# Altium schematic symbol library MCU_Microchip_ATtiny.SchLib: 223 symbols (part 3 of 3)
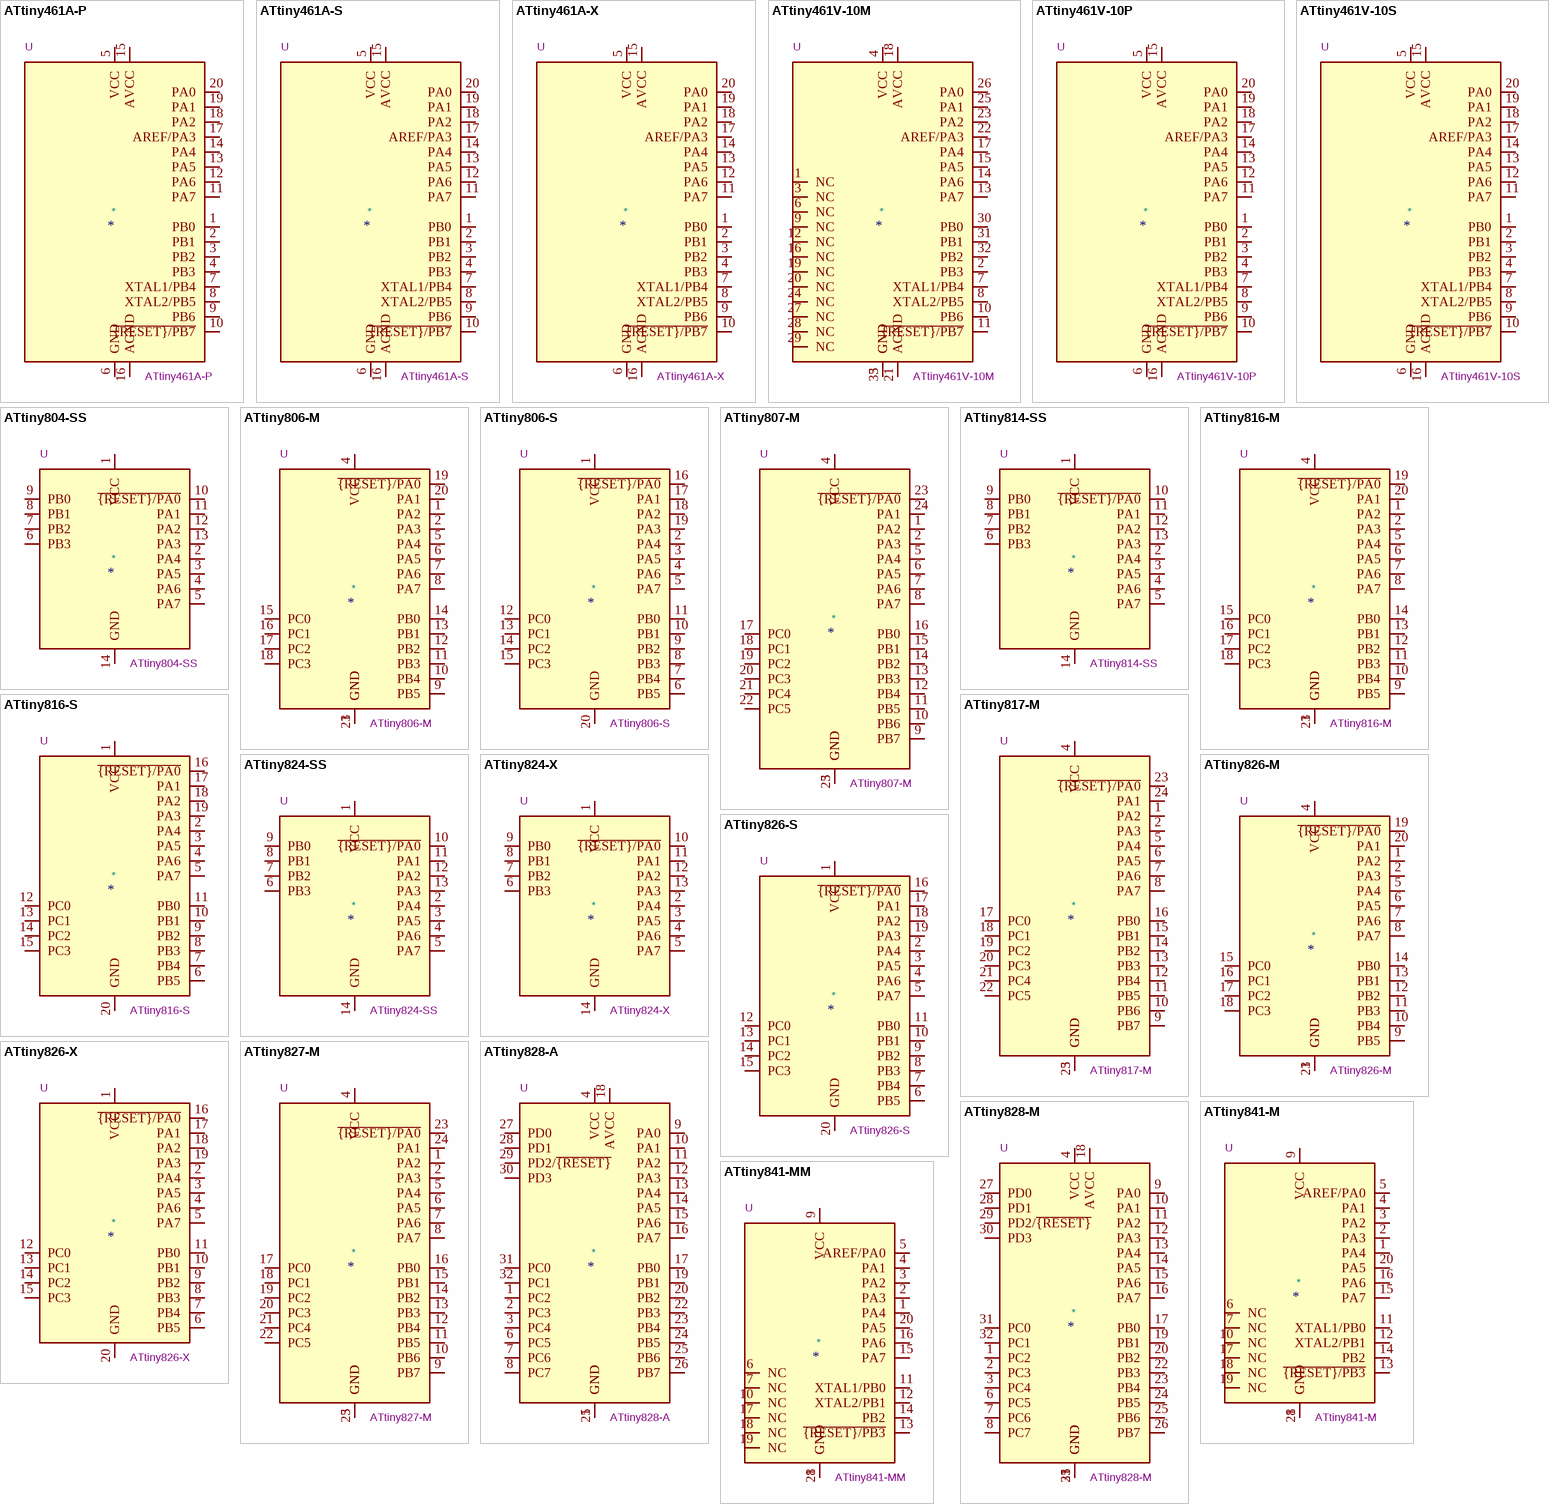
[diagram p11: symbols ATtiny461A-P to ATtiny841-MM]

## ATtiny828-M
designator *  value ATtiny828-M  Reference: U
20MHz, 8kB Flash, 512B SRAM, 256B EEPROM, debugWIRE, QFN-32; ki_keywords: AVR 8bit Microcontroller tinyAVR; ki_fp_filters: QFN*1EP*5x5mm*P0.5mm*; Footprint: Package_DFN_QFN:QFN-32-1EP_5x5mm_P0.5mm_EP3.1x3.1mm; Datasheet: http://ww1.microchip.com/downloads/en/DeviceDoc/doc8371.pdf; Description_: 20MHz, 8kB Flash, 512B SRAM, 256B EEPROM, debugWIRE, QFN-32
pins: 1 PC2, 2 PC3, 3 PC4, 4 VCC, 5 GND, 6 PC5, 7 PC6, 8 PC7, 9 PA0, 10 PA1, 11 PA2, 12 PA3, 13 PA4, 14 PA5, 15 PA6, 16 PA7, 17 PB0, 18 AVCC, 19 PB1, 20 PB2, 21 GND, 22 PB3, 23 PB4, 24 PB5, 25 PB6, 26 PB7, 27 PD0, 28 PD1, 29 PD2/~{{RESET}}, 30 PD3, 31 PC0, 32 PC1, 33 GND

## ATtiny841-M
designator *  value ATtiny841-M  Reference: U
16MHz, 8kB Flash, 512B SRAM, 512B EEPROM, ADC, ACI, debugWIRE, QFN-20; ki_keywords: AVR 8bit Microcontroller tinyAVR; ki_fp_filters: QFN*1EP*4x4mm*P0.5mm*; Footprint: Package_DFN_QFN:QFN-20-1EP_4x4mm_P0.5mm_EP2.6x2.6mm; Datasheet: http://ww1.microchip.com/downloads/en/DeviceDoc/Atmel-8495-8-bit-AVR-Microcontrollers-ATtiny441-ATtiny841_Datasheet.pdf; Description_: 16MHz, 8kB Flash, 512B SRAM, 512B EEPROM, ADC, ACI, debugWIRE, QFN-20
pins: 1 PA4, 2 PA3, 3 PA2, 4 PA1, 5 AREF/PA0, 6 NC, 7 NC, 8 GND, 9 VCC, 10 NC, 11 XTAL1/PB0, 12 XTAL2/PB1, 13 ~{{RESET}/PB3}, 14 PB2, 15 PA7, 16 PA6, 17 NC, 18 NC, 19 NC, 20 PA5, 21 GND

## ATtiny841-MM
designator *  value ATtiny841-MM  Reference: U
16MHz, 8kB Flash, 512B SRAM, 512B EEPROM, ADC, ACI, debugWIRE, QFN-20; ki_keywords: AVR 8bit Microcontroller tinyAVR; ki_fp_filters: QFN*1EP*3x3mm*P0.45mm*; Footprint: Package_DFN_QFN:QFN-20-1EP_3x3mm_P0.45mm_EP1.6x1.6mm; Datasheet: http://ww1.microchip.com/downloads/en/DeviceDoc/Atmel-8495-8-bit-AVR-Microcontrollers-ATtiny441-ATtiny841_Datasheet.pdf; Description_: 16MHz, 8kB Flash, 512B SRAM, 512B EEPROM, ADC, ACI, debugWIRE, QFN-20
pins: 1 PA4, 2 PA3, 3 PA2, 4 PA1, 5 AREF/PA0, 6 NC, 7 NC, 8 GND, 9 VCC, 10 NC, 11 XTAL1/PB0, 12 XTAL2/PB1, 13 ~{{RESET}/PB3}, 14 PB2, 15 PA7, 16 PA6, 17 NC, 18 NC, 19 NC, 20 PA5, 21 GND

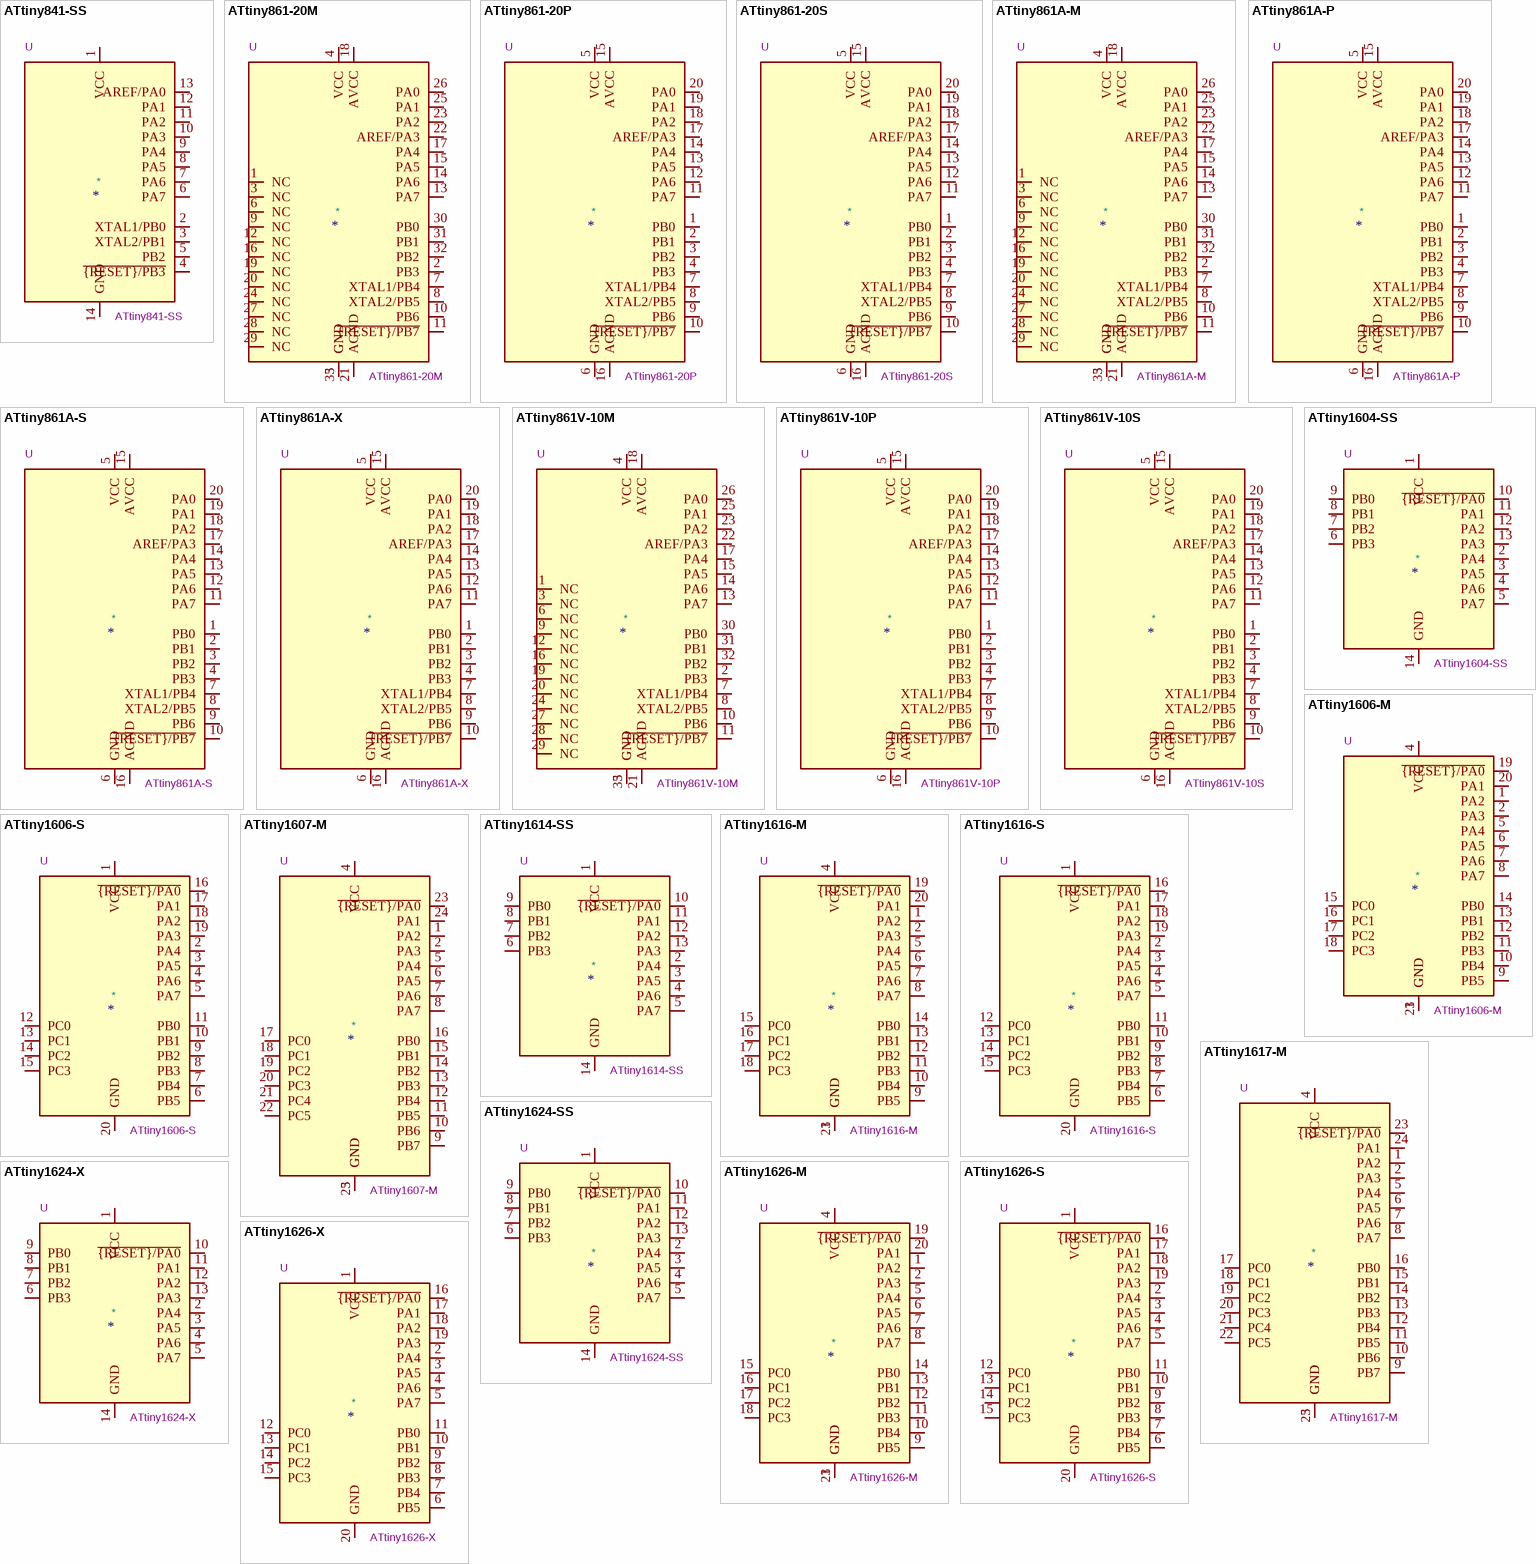
[diagram p7: symbols ATtiny841-SS to ATtiny1626-X]

## ATtiny841-SS
designator *  value ATtiny841-SS  Reference: U
16MHz, 8kB Flash, 512B SRAM, 512B EEPROM, ADC, ACI, debugWIRE, SOIC-14; ki_keywords: AVR 8bit Microcontroller tinyAVR; ki_fp_filters: SOIC*3.9x8.7mm*P1.27mm*; Footprint: Package_SO:SOIC-14_3.9x8.7mm_P1.27mm; Datasheet: http://ww1.microchip.com/downloads/en/DeviceDoc/Atmel-8495-8-bit-AVR-Microcontrollers-ATtiny441-ATtiny841_Datasheet.pdf; Description_: 16MHz, 8kB Flash, 512B SRAM, 512B EEPROM, ADC, ACI, debugWIRE, SOIC-14
pins: 1 VCC, 2 XTAL1/PB0, 3 XTAL2/PB1, 4 ~{{RESET}/PB3}, 5 PB2, 6 PA7, 7 PA6, 8 PA5, 9 PA4, 10 PA3, 11 PA2, 12 PA1, 13 AREF/PA0, 14 GND

## ATtiny861-20M
designator *  value ATtiny861-20M  Reference: U
20MHz, 8kB Flash, 512B SRAM, 512B EEPROM, QFN-32; ki_keywords: AVR 8bit Microcontroller tinyAVR; ki_fp_filters: QFN*1EP*5x5mm*P0.5mm*; Footprint: Package_DFN_QFN:QFN-32-1EP_5x5mm_P0.5mm_EP3.1x3.1mm; Datasheet: http://ww1.microchip.com/downloads/en/DeviceDoc/atmel-2588-8-bit-avr-microcontrollers-tinyavr-attiny261-attiny461-attiny861_datasheet.pdf; Description_: 20MHz, 8kB Flash, 512B SRAM, 512B EEPROM, QFN-32
pins: 1 NC, 2 PB3, 3 NC, 4 VCC, 5 GND, 6 NC, 7 XTAL1/PB4, 8 XTAL2/PB5, 9 NC, 10 PB6, 11 ~{{RESET}/PB7}, 12 NC, 13 PA7, 14 PA6, 15 PA5, 16 NC, 17 PA4, 18 AVCC, 19 NC, 20 NC, 21 AGND, 22 AREF/PA3, 23 PA2, 24 NC, 25 PA1, 26 PA0, 27 NC, 28 NC, 29 NC, 30 PB0, 31 PB1, 32 PB2, 33 GND

## ATtiny861-20P
designator *  value ATtiny861-20P  Reference: U
20MHz, 8kB Flash, 512B SRAM, 512B EEPROM, DIP-20; ki_keywords: AVR 8bit Microcontroller tinyAVR; ki_fp_filters: DIP*W7.62mm*; Footprint: Package_DIP:DIP-20_W7.62mm; Datasheet: http://ww1.microchip.com/downloads/en/DeviceDoc/atmel-2588-8-bit-avr-microcontrollers-tinyavr-attiny261-attiny461-attiny861_datasheet.pdf; Description_: 20MHz, 8kB Flash, 512B SRAM, 512B EEPROM, DIP-20
pins: 1 PB0, 2 PB1, 3 PB2, 4 PB3, 5 VCC, 6 GND, 7 XTAL1/PB4, 8 XTAL2/PB5, 9 PB6, 10 ~{{RESET}/PB7}, 11 PA7, 12 PA6, 13 PA5, 14 PA4, 15 AVCC, 16 AGND, 17 AREF/PA3, 18 PA2, 19 PA1, 20 PA0

## ATtiny861-20S
designator *  value ATtiny861-20S  Reference: U
20MHz, 8kB Flash, 512B SRAM, 512B EEPROM, SOIC-20; ki_keywords: AVR 8bit Microcontroller tinyAVR; ki_fp_filters: SOIC*7.5x12.8mm*P1.27mm*; Footprint: Package_SO:SOIC-20W_7.5x12.8mm_P1.27mm; Datasheet: http://ww1.microchip.com/downloads/en/DeviceDoc/atmel-2588-8-bit-avr-microcontrollers-tinyavr-attiny261-attiny461-attiny861_datasheet.pdf; Description_: 20MHz, 8kB Flash, 512B SRAM, 512B EEPROM, SOIC-20
pins: 1 PB0, 2 PB1, 3 PB2, 4 PB3, 5 VCC, 6 GND, 7 XTAL1/PB4, 8 XTAL2/PB5, 9 PB6, 10 ~{{RESET}/PB7}, 11 PA7, 12 PA6, 13 PA5, 14 PA4, 15 AVCC, 16 AGND, 17 AREF/PA3, 18 PA2, 19 PA1, 20 PA0

## ATtiny861A-M
designator *  value ATtiny861A-M  Reference: U
20MHz, 8kB Flash, 512B SRAM, 512B EEPROM, QFN-32; ki_keywords: AVR 8bit Microcontroller tinyAVR; ki_fp_filters: QFN*1EP*5x5mm*P0.5mm*; Footprint: Package_DFN_QFN:QFN-32-1EP_5x5mm_P0.5mm_EP3.1x3.1mm; Datasheet: http://ww1.microchip.com/downloads/en/DeviceDoc/doc8197.pdf; Description_: 20MHz, 8kB Flash, 512B SRAM, 512B EEPROM, QFN-32
pins: 1 NC, 2 PB3, 3 NC, 4 VCC, 5 GND, 6 NC, 7 XTAL1/PB4, 8 XTAL2/PB5, 9 NC, 10 PB6, 11 ~{{RESET}/PB7}, 12 NC, 13 PA7, 14 PA6, 15 PA5, 16 NC, 17 PA4, 18 AVCC, 19 NC, 20 NC, 21 AGND, 22 AREF/PA3, 23 PA2, 24 NC, 25 PA1, 26 PA0, 27 NC, 28 NC, 29 NC, 30 PB0, 31 PB1, 32 PB2, 33 GND

## ATtiny861A-P
designator *  value ATtiny861A-P  Reference: U
20MHz, 8kB Flash, 512B SRAM, 512B EEPROM, DIP-20; ki_keywords: AVR 8bit Microcontroller tinyAVR; ki_fp_filters: DIP*W7.62mm*; Footprint: Package_DIP:DIP-20_W7.62mm; Datasheet: http://ww1.microchip.com/downloads/en/DeviceDoc/doc8197.pdf; Description_: 20MHz, 8kB Flash, 512B SRAM, 512B EEPROM, DIP-20
pins: 1 PB0, 2 PB1, 3 PB2, 4 PB3, 5 VCC, 6 GND, 7 XTAL1/PB4, 8 XTAL2/PB5, 9 PB6, 10 ~{{RESET}/PB7}, 11 PA7, 12 PA6, 13 PA5, 14 PA4, 15 AVCC, 16 AGND, 17 AREF/PA3, 18 PA2, 19 PA1, 20 PA0

## ATtiny861A-S
designator *  value ATtiny861A-S  Reference: U
20MHz, 8kB Flash, 512B SRAM, 512B EEPROM, SOIC-20; ki_keywords: AVR 8bit Microcontroller tinyAVR; ki_fp_filters: SOIC*7.5x12.8mm*P1.27mm*; Footprint: Package_SO:SOIC-20W_7.5x12.8mm_P1.27mm; Datasheet: http://ww1.microchip.com/downloads/en/DeviceDoc/doc8197.pdf; Description_: 20MHz, 8kB Flash, 512B SRAM, 512B EEPROM, SOIC-20
pins: 1 PB0, 2 PB1, 3 PB2, 4 PB3, 5 VCC, 6 GND, 7 XTAL1/PB4, 8 XTAL2/PB5, 9 PB6, 10 ~{{RESET}/PB7}, 11 PA7, 12 PA6, 13 PA5, 14 PA4, 15 AVCC, 16 AGND, 17 AREF/PA3, 18 PA2, 19 PA1, 20 PA0

## ATtiny861A-X
designator *  value ATtiny861A-X  Reference: U
20MHz, 8kB Flash, 512B SRAM, 512B EEPROM, TSSOP-20; ki_keywords: AVR 8bit Microcontroller tinyAVR; ki_fp_filters: TSSOP*4.4x6.5mm*P0.65mm*; Footprint: Package_SO:TSSOP-20_4.4x6.5mm_P0.65mm; Datasheet: http://ww1.microchip.com/downloads/en/DeviceDoc/doc8197.pdf; Description_: 20MHz, 8kB Flash, 512B SRAM, 512B EEPROM, TSSOP-20
pins: 1 PB0, 2 PB1, 3 PB2, 4 PB3, 5 VCC, 6 GND, 7 XTAL1/PB4, 8 XTAL2/PB5, 9 PB6, 10 ~{{RESET}/PB7}, 11 PA7, 12 PA6, 13 PA5, 14 PA4, 15 AVCC, 16 AGND, 17 AREF/PA3, 18 PA2, 19 PA1, 20 PA0

## ATtiny861V-10M
designator *  value ATtiny861V-10M  Reference: U
10MHz, 8kB Flash, 512B SRAM, 512B EEPROM, QFN-32; ki_keywords: AVR 8bit Microcontroller tinyAVR; ki_fp_filters: QFN*1EP*5x5mm*P0.5mm*; Footprint: Package_DFN_QFN:QFN-32-1EP_5x5mm_P0.5mm_EP3.1x3.1mm; Datasheet: http://ww1.microchip.com/downloads/en/DeviceDoc/atmel-2588-8-bit-avr-microcontrollers-tinyavr-attiny261-attiny461-attiny861_datasheet.pdf; Description_: 10MHz, 8kB Flash, 512B SRAM, 512B EEPROM, QFN-32
pins: 1 NC, 2 PB3, 3 NC, 4 VCC, 5 GND, 6 NC, 7 XTAL1/PB4, 8 XTAL2/PB5, 9 NC, 10 PB6, 11 ~{{RESET}/PB7}, 12 NC, 13 PA7, 14 PA6, 15 PA5, 16 NC, 17 PA4, 18 AVCC, 19 NC, 20 NC, 21 AGND, 22 AREF/PA3, 23 PA2, 24 NC, 25 PA1, 26 PA0, 27 NC, 28 NC, 29 NC, 30 PB0, 31 PB1, 32 PB2, 33 GND

## ATtiny861V-10P
designator *  value ATtiny861V-10P  Reference: U
10MHz, 8kB Flash, 512B SRAM, 512B EEPROM, DIP-20; ki_keywords: AVR 8bit Microcontroller tinyAVR; ki_fp_filters: DIP*W7.62mm*; Footprint: Package_DIP:DIP-20_W7.62mm; Datasheet: http://ww1.microchip.com/downloads/en/DeviceDoc/atmel-2588-8-bit-avr-microcontrollers-tinyavr-attiny261-attiny461-attiny861_datasheet.pdf; Description_: 10MHz, 8kB Flash, 512B SRAM, 512B EEPROM, DIP-20
pins: 1 PB0, 2 PB1, 3 PB2, 4 PB3, 5 VCC, 6 GND, 7 XTAL1/PB4, 8 XTAL2/PB5, 9 PB6, 10 ~{{RESET}/PB7}, 11 PA7, 12 PA6, 13 PA5, 14 PA4, 15 AVCC, 16 AGND, 17 AREF/PA3, 18 PA2, 19 PA1, 20 PA0

## ATtiny861V-10S
designator *  value ATtiny861V-10S  Reference: U
10MHz, 8kB Flash, 512B SRAM, 512B EEPROM, SOIC-20; ki_keywords: AVR 8bit Microcontroller tinyAVR; ki_fp_filters: SOIC*7.5x12.8mm*P1.27mm*; Footprint: Package_SO:SOIC-20W_7.5x12.8mm_P1.27mm; Datasheet: http://ww1.microchip.com/downloads/en/DeviceDoc/atmel-2588-8-bit-avr-microcontrollers-tinyavr-attiny261-attiny461-attiny861_datasheet.pdf; Description_: 10MHz, 8kB Flash, 512B SRAM, 512B EEPROM, SOIC-20
pins: 1 PB0, 2 PB1, 3 PB2, 4 PB3, 5 VCC, 6 GND, 7 XTAL1/PB4, 8 XTAL2/PB5, 9 PB6, 10 ~{{RESET}/PB7}, 11 PA7, 12 PA6, 13 PA5, 14 PA4, 15 AVCC, 16 AGND, 17 AREF/PA3, 18 PA2, 19 PA1, 20 PA0

## ATtiny1604-SS
designator *  value ATtiny1604-SS  Reference: U
20MHz, 16kB Flash, 1kB SRAM, 256B EEPROM, SOIC-14; ki_keywords: AVR 8bit Microcontroller tinyAVR; ki_fp_filters: SOIC*3.9x8.7mm*P1.27mm*; Footprint: Package_SO:SOIC-14_3.9x8.7mm_P1.27mm; Datasheet: http://ww1.microchip.com/downloads/en/DeviceDoc/ATtiny804_1604-Data-Sheet-40002028A.pdf; Description_: 20MHz, 16kB Flash, 1kB SRAM, 256B EEPROM, SOIC-14
pins: 1 VCC, 2 PA4, 3 PA5, 4 PA6, 5 PA7, 6 PB3, 7 PB2, 8 PB1, 9 PB0, 10 ~{{RESET}/PA0}, 11 PA1, 12 PA2, 13 PA3, 14 GND

## ATtiny1606-M
designator *  value ATtiny1606-M  Reference: U
20MHz, 16kB Flash, 1kB SRAM, 256B EEPROM, VQFN-20; ki_keywords: AVR 8bit Microcontroller tinyAVR; ki_fp_filters: VQFN*1EP*3x3mm*P0.4mm*; Footprint: Package_DFN_QFN:VQFN-20-1EP_3x3mm_P0.4mm_EP1.7x1.7mm; Datasheet: http://ww1.microchip.com/downloads/en/DeviceDoc/ATtiny806_1606_Data_Sheet_40002029A.pdf; Description_: 20MHz, 16kB Flash, 1kB SRAM, 256B EEPROM, VQFN-20
pins: 1 PA2, 2 PA3, 3 GND, 4 VCC, 5 PA4, 6 PA5, 7 PA6, 8 PA7, 9 PB5, 10 PB4, 11 PB3, 12 PB2, 13 PB1, 14 PB0, 15 PC0, 16 PC1, 17 PC2, 18 PC3, 19 ~{{RESET}/PA0}, 20 PA1, 21 GND

## ATtiny1606-S
designator *  value ATtiny1606-S  Reference: U
20MHz, 16kB Flash, 1kB SRAM, 256B EEPROM, SOIC-20; ki_keywords: AVR 8bit Microcontroller tinyAVR; ki_fp_filters: SOIC*7.5x12.8mm*P1.27mm*; Footprint: Package_SO:SOIC-20W_7.5x12.8mm_P1.27mm; Datasheet: http://ww1.microchip.com/downloads/en/DeviceDoc/ATtiny806_1606_Data_Sheet_40002029A.pdf; Description_: 20MHz, 16kB Flash, 1kB SRAM, 256B EEPROM, SOIC-20
pins: 1 VCC, 2 PA4, 3 PA5, 4 PA6, 5 PA7, 6 PB5, 7 PB4, 8 PB3, 9 PB2, 10 PB1, 11 PB0, 12 PC0, 13 PC1, 14 PC2, 15 PC3, 16 ~{{RESET}/PA0}, 17 PA1, 18 PA2, 19 PA3, 20 GND

## ATtiny1607-M
designator *  value ATtiny1607-M  Reference: U
20MHz, 16kB Flash, 1kB SRAM, 256B EEPROM, VQFN-24; ki_keywords: AVR 8bit Microcontroller tinyAVR; ki_fp_filters: QFN*1EP*4x4mm*P0.5mm*; Footprint: Package_DFN_QFN:QFN-24-1EP_4x4mm_P0.5mm_EP2.6x2.6mm; Datasheet: http://ww1.microchip.com/downloads/en/DeviceDoc/ATtiny807_1607-Data-Sheet-40002030A.pdf; Description_: 20MHz, 16kB Flash, 1kB SRAM, 256B EEPROM, VQFN-24
pins: 1 PA2, 2 PA3, 3 GND, 4 VCC, 5 PA4, 6 PA5, 7 PA6, 8 PA7, 9 PB7, 10 PB6, 11 PB5, 12 PB4, 13 PB3, 14 PB2, 15 PB1, 16 PB0, 17 PC0, 18 PC1, 19 PC2, 20 PC3, 21 PC4, 22 PC5, 23 ~{{RESET}/PA0}, 24 PA1, 25 GND

## ATtiny1614-SS
designator *  value ATtiny1614-SS  Reference: U
20MHz, 16kB Flash, 2kB SRAM, 256B EEPROM, SOIC-14; ki_keywords: AVR 8bit Microcontroller tinyAVR; ki_fp_filters: SOIC*3.9x8.7mm*P1.27mm*; Footprint: Package_SO:SOIC-14_3.9x8.7mm_P1.27mm; Datasheet: http://ww1.microchip.com/downloads/en/DeviceDoc/ATtiny1614-data-sheet-40001995A.pdf; Description_: 20MHz, 16kB Flash, 2kB SRAM, 256B EEPROM, SOIC-14
pins: 1 VCC, 2 PA4, 3 PA5, 4 PA6, 5 PA7, 6 PB3, 7 PB2, 8 PB1, 9 PB0, 10 ~{{RESET}/PA0}, 11 PA1, 12 PA2, 13 PA3, 14 GND

## ATtiny1616-M
designator *  value ATtiny1616-M  Reference: U
20MHz, 16kB Flash, 2kB SRAM, 256B EEPROM, VQFN-20; ki_keywords: AVR 8bit Microcontroller tinyAVR; ki_fp_filters: VQFN*1EP*3x3mm*P0.4mm*; Footprint: Package_DFN_QFN:VQFN-20-1EP_3x3mm_P0.4mm_EP1.7x1.7mm; Datasheet: http://ww1.microchip.com/downloads/en/DeviceDoc/ATtiny3216_ATtiny1616-data-sheet-40001997B.pdf; Description_: 20MHz, 16kB Flash, 2kB SRAM, 256B EEPROM, VQFN-20
pins: 1 PA2, 2 PA3, 3 GND, 4 VCC, 5 PA4, 6 PA5, 7 PA6, 8 PA7, 9 PB5, 10 PB4, 11 PB3, 12 PB2, 13 PB1, 14 PB0, 15 PC0, 16 PC1, 17 PC2, 18 PC3, 19 ~{{RESET}/PA0}, 20 PA1, 21 GND

## ATtiny1616-S
designator *  value ATtiny1616-S  Reference: U
20MHz, 16kB Flash, 2kB SRAM, 256B EEPROM, SOIC-20; ki_keywords: AVR 8bit Microcontroller tinyAVR; ki_fp_filters: SOIC*7.5x12.8mm*P1.27mm*; Footprint: Package_SO:SOIC-20W_7.5x12.8mm_P1.27mm; Datasheet: http://ww1.microchip.com/downloads/en/DeviceDoc/ATtiny3216_ATtiny1616-data-sheet-40001997B.pdf; Description_: 20MHz, 16kB Flash, 2kB SRAM, 256B EEPROM, SOIC-20
pins: 1 VCC, 2 PA4, 3 PA5, 4 PA6, 5 PA7, 6 PB5, 7 PB4, 8 PB3, 9 PB2, 10 PB1, 11 PB0, 12 PC0, 13 PC1, 14 PC2, 15 PC3, 16 ~{{RESET}/PA0}, 17 PA1, 18 PA2, 19 PA3, 20 GND

## ATtiny1617-M
designator *  value ATtiny1617-M  Reference: U
20MHz, 16kB Flash, 2kB SRAM, 256B EEPROM, VQFN-24; ki_keywords: AVR 8bit Microcontroller tinyAVR; ki_fp_filters: QFN*1EP*4x4mm*P0.5mm*; Footprint: Package_DFN_QFN:QFN-24-1EP_4x4mm_P0.5mm_EP2.6x2.6mm; Datasheet: http://ww1.microchip.com/downloads/en/DeviceDoc/ATtiny3217_1617-Data-Sheet-40001999B.pdf; Description_: 20MHz, 16kB Flash, 2kB SRAM, 256B EEPROM, VQFN-24
pins: 1 PA2, 2 PA3, 3 GND, 4 VCC, 5 PA4, 6 PA5, 7 PA6, 8 PA7, 9 PB7, 10 PB6, 11 PB5, 12 PB4, 13 PB3, 14 PB2, 15 PB1, 16 PB0, 17 PC0, 18 PC1, 19 PC2, 20 PC3, 21 PC4, 22 PC5, 23 ~{{RESET}/PA0}, 24 PA1, 25 GND

## ATtiny1624-SS
designator *  value ATtiny1624-SS  Reference: U
20MHz, 16kB Flash, 2kB SRAM, 256B EEPROM, SOIC-14; ki_keywords: AVR 8bit Microcontroller tinyAVR; ki_fp_filters: SOIC*3.9x8.7mm*P1.27mm*; Footprint: Package_SO:SOIC-14_3.9x8.7mm_P1.27mm; Datasheet: https://ww1.microchip.com/downloads/en/DeviceDoc/ATtiny1624-26-27-DataSheet-DS40002234A.pdf; Description_: 20MHz, 16kB Flash, 2kB SRAM, 256B EEPROM, SOIC-14
pins: 1 VCC, 2 PA4, 3 PA5, 4 PA6, 5 PA7, 6 PB3, 7 PB2, 8 PB1, 9 PB0, 10 ~{{RESET}/PA0}, 11 PA1, 12 PA2, 13 PA3, 14 GND

## ATtiny1624-X
designator *  value ATtiny1624-X  Reference: U
20MHz, 16kB Flash, 2kB SRAM, 256B EEPROM, TSSOP-14; ki_keywords: AVR 8bit Microcontroller tinyAVR; ki_fp_filters: TSSOP*4.4x5mm*P0.65mm*; Footprint: Package_SO:TSSOP-14_4.4x5mm_P0.65mm; Datasheet: https://ww1.microchip.com/downloads/en/DeviceDoc/ATtiny1624-26-27-DataSheet-DS40002234A.pdf; Description_: 20MHz, 16kB Flash, 2kB SRAM, 256B EEPROM, TSSOP-14
pins: 1 VCC, 2 PA4, 3 PA5, 4 PA6, 5 PA7, 6 PB3, 7 PB2, 8 PB1, 9 PB0, 10 ~{{RESET}/PA0}, 11 PA1, 12 PA2, 13 PA3, 14 GND

## ATtiny1626-M
designator *  value ATtiny1626-M  Reference: U
20MHz, 16kB Flash, 2kB SRAM, 256B EEPROM, VQFN-20; ki_keywords: AVR 8bit Microcontroller tinyAVR; ki_fp_filters: VQFN*1EP*3x3mm*P0.4mm*; Footprint: Package_DFN_QFN:VQFN-20-1EP_3x3mm_P0.4mm_EP1.7x1.7mm; Datasheet: https://ww1.microchip.com/downloads/en/DeviceDoc/ATtiny1624-26-27-DataSheet-DS40002234A.pdf; Description_: 20MHz, 16kB Flash, 2kB SRAM, 256B EEPROM, VQFN-20
pins: 1 PA2, 2 PA3, 3 GND, 4 VCC, 5 PA4, 6 PA5, 7 PA6, 8 PA7, 9 PB5, 10 PB4, 11 PB3, 12 PB2, 13 PB1, 14 PB0, 15 PC0, 16 PC1, 17 PC2, 18 PC3, 19 ~{{RESET}/PA0}, 20 PA1, 21 GND

## ATtiny1626-S
designator *  value ATtiny1626-S  Reference: U
20MHz, 16kB Flash, 2kB SRAM, 256B EEPROM, SOIC-20; ki_keywords: AVR 8bit Microcontroller tinyAVR; ki_fp_filters: SOIC*7.5x12.8mm*P1.27mm*; Footprint: Package_SO:SOIC-20W_7.5x12.8mm_P1.27mm; Datasheet: https://ww1.microchip.com/downloads/en/DeviceDoc/ATtiny1624-26-27-DataSheet-DS40002234A.pdf; Description_: 20MHz, 16kB Flash, 2kB SRAM, 256B EEPROM, SOIC-20
pins: 1 VCC, 2 PA4, 3 PA5, 4 PA6, 5 PA7, 6 PB5, 7 PB4, 8 PB3, 9 PB2, 10 PB1, 11 PB0, 12 PC0, 13 PC1, 14 PC2, 15 PC3, 16 ~{{RESET}/PA0}, 17 PA1, 18 PA2, 19 PA3, 20 GND

## ATtiny1626-X
designator *  value ATtiny1626-X  Reference: U
20MHz, 16kB Flash, 2kB SRAM, 256B EEPROM, SSOP-20; ki_keywords: AVR 8bit Microcontroller tinyAVR; ki_fp_filters: SSOP*5.3x7.2mm*P0.65mm*; Footprint: Package_SO:SSOP-20_5.3x7.2mm_P0.65mm; Datasheet: https://ww1.microchip.com/downloads/en/DeviceDoc/ATtiny1624-26-27-DataSheet-DS40002234A.pdf; Description_: 20MHz, 16kB Flash, 2kB SRAM, 256B EEPROM, SSOP-20
pins: 1 VCC, 2 PA4, 3 PA5, 4 PA6, 5 PA7, 6 PB5, 7 PB4, 8 PB3, 9 PB2, 10 PB1, 11 PB0, 12 PC0, 13 PC1, 14 PC2, 15 PC3, 16 ~{{RESET}/PA0}, 17 PA1, 18 PA2, 19 PA3, 20 GND

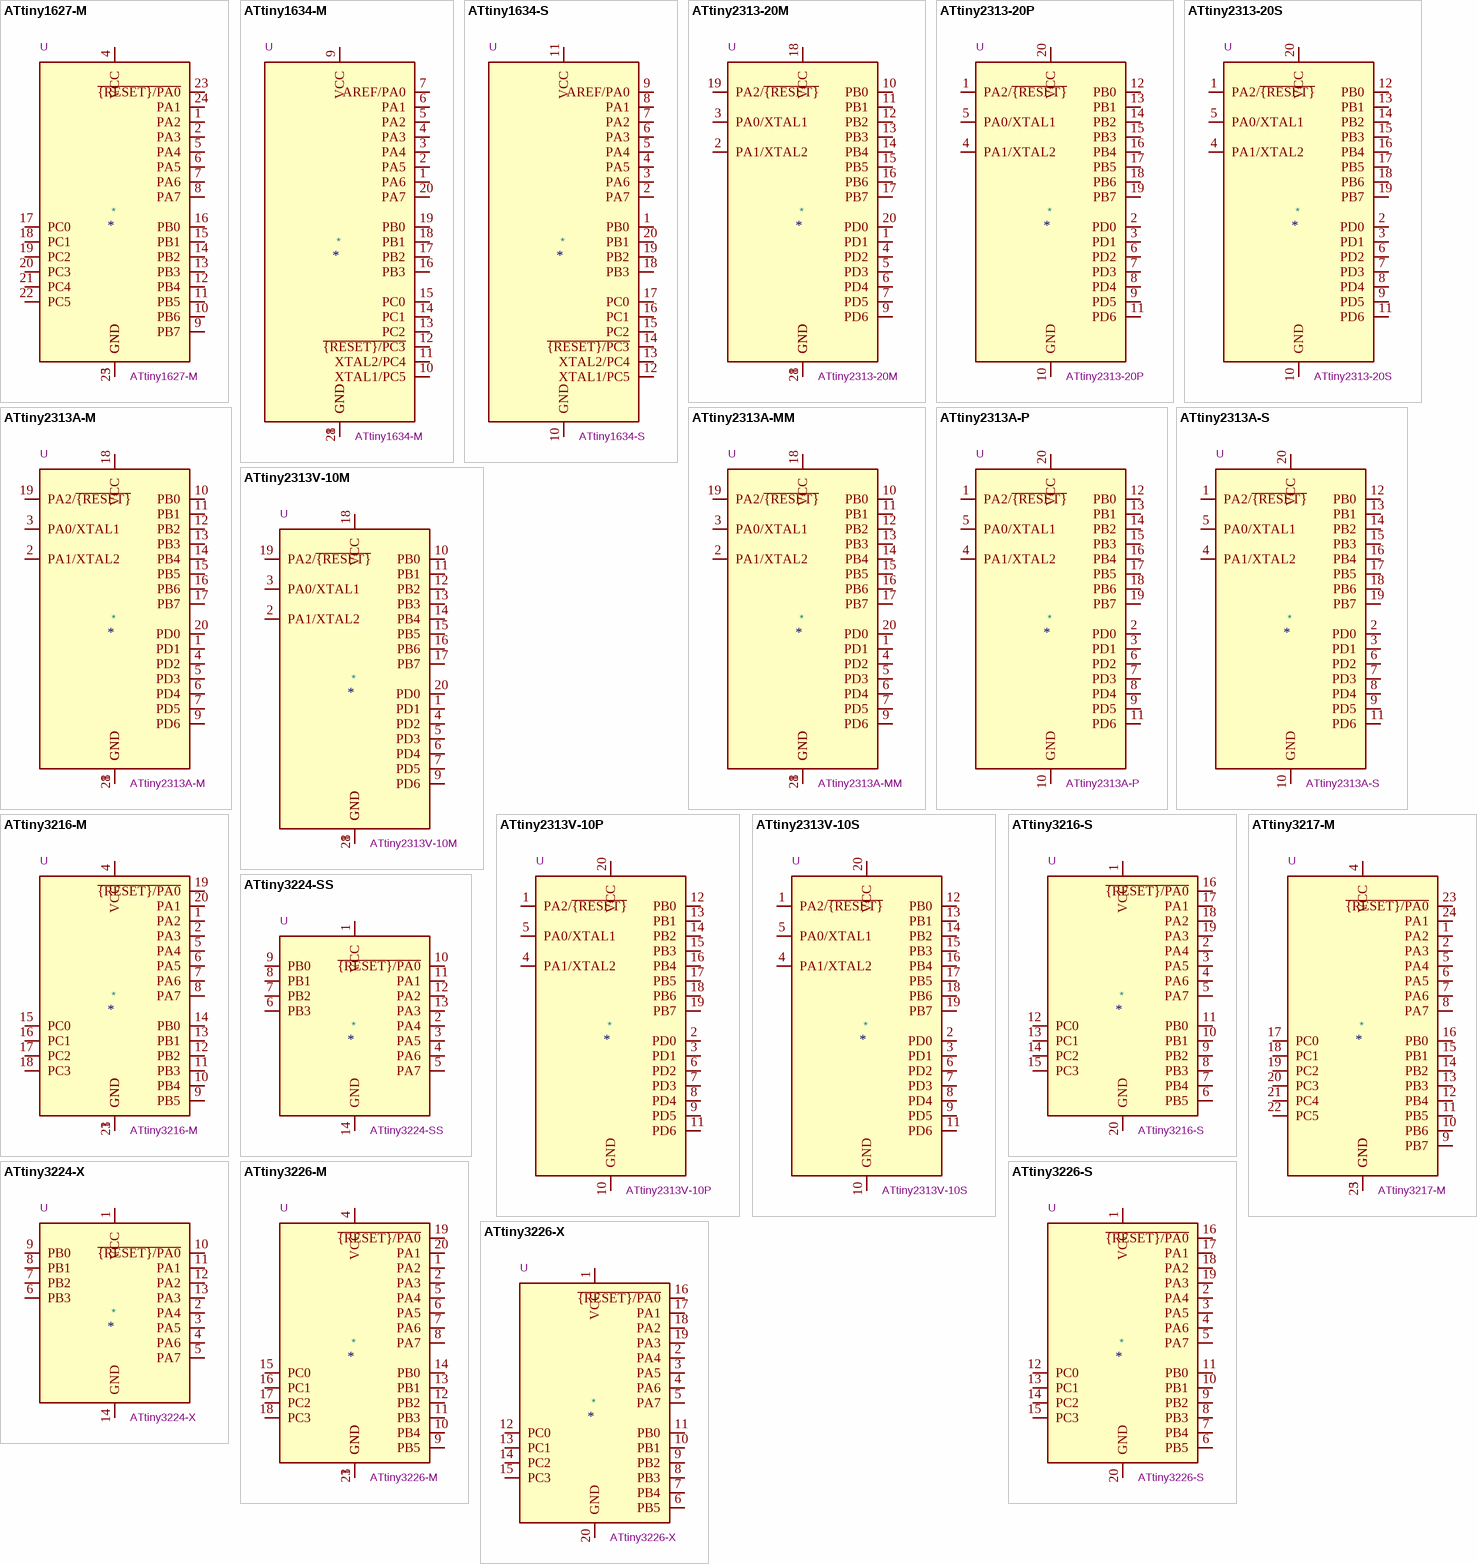
[diagram p8: symbols ATtiny1627-M to ATtiny3226-X]

## ATtiny1627-M
designator *  value ATtiny1627-M  Reference: U
20MHz, 16kB Flash, 2kB SRAM, 256B EEPROM, VQFN-24; ki_keywords: AVR 8bit Microcontroller tinyAVR; ki_fp_filters: QFN*1EP*4x4mm*P0.5mm*; Footprint: Package_DFN_QFN:QFN-24-1EP_4x4mm_P0.5mm_EP2.6x2.6mm; Datasheet: https://ww1.microchip.com/downloads/en/DeviceDoc/ATtiny1624-26-27-DataSheet-DS40002234A.pdf; Description_: 20MHz, 16kB Flash, 2kB SRAM, 256B EEPROM, VQFN-24
pins: 1 PA2, 2 PA3, 3 GND, 4 VCC, 5 PA4, 6 PA5, 7 PA6, 8 PA7, 9 PB7, 10 PB6, 11 PB5, 12 PB4, 13 PB3, 14 PB2, 15 PB1, 16 PB0, 17 PC0, 18 PC1, 19 PC2, 20 PC3, 21 PC4, 22 PC5, 23 ~{{RESET}/PA0}, 24 PA1, 25 GND

## ATtiny1634-M
designator *  value ATtiny1634-M  Reference: U
12MHz, 16kB Flash, 1kB SRAM, 256B EEPROM, ADC, ACI, debugWIRE, QFN-20; ki_keywords: AVR 8bit Microcontroller tinyAVR; ki_fp_filters: QFN*1EP*4x4mm*P0.5mm*; Footprint: Package_DFN_QFN:QFN-20-1EP_4x4mm_P0.5mm_EP2.6x2.6mm; Datasheet: http://ww1.microchip.com/downloads/en/DeviceDoc/Atmel-8303-8-bit-AVR-Microcontroller-tinyAVR-ATtiny1634_Datasheet.pdf; Description_: 12MHz, 16kB Flash, 1kB SRAM, 256B EEPROM, ADC, ACI, debugWIRE, QFN-20
pins: 1 PA6, 2 PA5, 3 PA4, 4 PA3, 5 PA2, 6 PA1, 7 AREF/PA0, 8 GND, 9 VCC, 10 XTAL1/PC5, 11 XTAL2/PC4, 12 ~{{RESET}/PC3}, 13 PC2, 14 PC1, 15 PC0, 16 PB3, 17 PB2, 18 PB1, 19 PB0, 20 PA7, 21 GND

## ATtiny1634-S
designator *  value ATtiny1634-S  Reference: U
12MHz, 16kB Flash, 1kB SRAM, 256B EEPROM, ADC, ACI, debugWIRE, SOIC-20; ki_keywords: AVR 8bit Microcontroller tinyAVR; ki_fp_filters: SOIC*7.5x12.8mm*P1.27mm*; Footprint: Package_SO:SOIC-20W_7.5x12.8mm_P1.27mm; Datasheet: http://ww1.microchip.com/downloads/en/DeviceDoc/Atmel-8303-8-bit-AVR-Microcontroller-tinyAVR-ATtiny1634_Datasheet.pdf; Description_: 12MHz, 16kB Flash, 1kB SRAM, 256B EEPROM, ADC, ACI, debugWIRE, SOIC-20
pins: 1 PB0, 2 PA7, 3 PA6, 4 PA5, 5 PA4, 6 PA3, 7 PA2, 8 PA1, 9 AREF/PA0, 10 GND, 11 VCC, 12 XTAL1/PC5, 13 XTAL2/PC4, 14 ~{{RESET}/PC3}, 15 PC2, 16 PC1, 17 PC0, 18 PB3, 19 PB2, 20 PB1

## ATtiny2313-20M
designator *  value ATtiny2313-20M  Reference: U
20MHz, 2kB Flash, 128B SRAM, 128B EEPROM, debugWIRE, QFN-20; ki_keywords: AVR 8bit Microcontroller tinyAVR; ki_fp_filters: MLF*1EP*4x4mm*P0.5mm*; Footprint: Package_DFN_QFN:MLF-20-1EP_4x4mm_P0.5mm_EP2.6x2.6mm; Datasheet: http://ww1.microchip.com/downloads/en/DeviceDoc/Atmel-2543-AVR-ATtiny2313_Datasheet.pdf; Description_: 20MHz, 2kB Flash, 128B SRAM, 128B EEPROM, debugWIRE, QFN-20
pins: 1 PD1, 2 PA1/XTAL2, 3 PA0/XTAL1, 4 PD2, 5 PD3, 6 PD4, 7 PD5, 8 GND, 9 PD6, 10 PB0, 11 PB1, 12 PB2, 13 PB3, 14 PB4, 15 PB5, 16 PB6, 17 PB7, 18 VCC, 19 PA2/~{{RESET}}, 20 PD0, 21 GND

## ATtiny2313-20P
designator *  value ATtiny2313-20P  Reference: U
20MHz, 2kB Flash, 128B SRAM, 128B EEPROM, debugWIRE, DIP-20; ki_keywords: AVR 8bit Microcontroller tinyAVR; ki_fp_filters: DIP*W7.62mm*; Footprint: Package_DIP:DIP-20_W7.62mm; Datasheet: http://ww1.microchip.com/downloads/en/DeviceDoc/Atmel-2543-AVR-ATtiny2313_Datasheet.pdf; Description_: 20MHz, 2kB Flash, 128B SRAM, 128B EEPROM, debugWIRE, DIP-20
pins: 1 PA2/~{{RESET}}, 2 PD0, 3 PD1, 4 PA1/XTAL2, 5 PA0/XTAL1, 6 PD2, 7 PD3, 8 PD4, 9 PD5, 10 GND, 11 PD6, 12 PB0, 13 PB1, 14 PB2, 15 PB3, 16 PB4, 17 PB5, 18 PB6, 19 PB7, 20 VCC

## ATtiny2313-20S
designator *  value ATtiny2313-20S  Reference: U
20MHz, 2kB Flash, 128B SRAM, 128B EEPROM, debugWIRE, SOIC-20; ki_keywords: AVR 8bit Microcontroller tinyAVR; ki_fp_filters: SOIC*7.5x12.8mm*P1.27mm*; Footprint: Package_SO:SOIC-20W_7.5x12.8mm_P1.27mm; Datasheet: http://ww1.microchip.com/downloads/en/DeviceDoc/Atmel-2543-AVR-ATtiny2313_Datasheet.pdf; Description_: 20MHz, 2kB Flash, 128B SRAM, 128B EEPROM, debugWIRE, SOIC-20
pins: 1 PA2/~{{RESET}}, 2 PD0, 3 PD1, 4 PA1/XTAL2, 5 PA0/XTAL1, 6 PD2, 7 PD3, 8 PD4, 9 PD5, 10 GND, 11 PD6, 12 PB0, 13 PB1, 14 PB2, 15 PB3, 16 PB4, 17 PB5, 18 PB6, 19 PB7, 20 VCC

## ATtiny2313A-M
designator *  value ATtiny2313A-M  Reference: U
20MHz, 2kB Flash, 128B SRAM, 128B EEPROM, QFN-20; ki_keywords: AVR 8bit Microcontroller tinyAVR; ki_fp_filters: MLF*1EP*4x4mm*P0.5mm*; Footprint: Package_DFN_QFN:MLF-20-1EP_4x4mm_P0.5mm_EP2.6x2.6mm; Datasheet: http://ww1.microchip.com/downloads/en/DeviceDoc/doc8246.pdf; Description_: 20MHz, 2kB Flash, 128B SRAM, 128B EEPROM, QFN-20
pins: 1 PD1, 2 PA1/XTAL2, 3 PA0/XTAL1, 4 PD2, 5 PD3, 6 PD4, 7 PD5, 8 GND, 9 PD6, 10 PB0, 11 PB1, 12 PB2, 13 PB3, 14 PB4, 15 PB5, 16 PB6, 17 PB7, 18 VCC, 19 PA2/~{{RESET}}, 20 PD0, 21 GND

## ATtiny2313A-MM
designator *  value ATtiny2313A-MM  Reference: U
20MHz, 2kB Flash, 128B SRAM, 128B EEPROM, QFN-20; ki_keywords: AVR 8bit Microcontroller tinyAVR; ki_fp_filters: VQFN*1EP*3x3mm*P0.45mm*; Footprint: Package_DFN_QFN:VQFN-20-1EP_3x3mm_P0.45mm_EP1.55x1.55mm; Datasheet: http://ww1.microchip.com/downloads/en/DeviceDoc/doc8246.pdf; Description_: 20MHz, 2kB Flash, 128B SRAM, 128B EEPROM, QFN-20
pins: 1 PD1, 2 PA1/XTAL2, 3 PA0/XTAL1, 4 PD2, 5 PD3, 6 PD4, 7 PD5, 8 GND, 9 PD6, 10 PB0, 11 PB1, 12 PB2, 13 PB3, 14 PB4, 15 PB5, 16 PB6, 17 PB7, 18 VCC, 19 PA2/~{{RESET}}, 20 PD0, 21 GND

## ATtiny2313A-P
designator *  value ATtiny2313A-P  Reference: U
20MHz, 2kB Flash, 128B SRAM, 128B EEPROM, DIP-20; ki_keywords: AVR 8bit Microcontroller tinyAVR; ki_fp_filters: DIP*W7.62mm*; Footprint: Package_DIP:DIP-20_W7.62mm; Datasheet: http://ww1.microchip.com/downloads/en/DeviceDoc/doc8246.pdf; Description_: 20MHz, 2kB Flash, 128B SRAM, 128B EEPROM, DIP-20
pins: 1 PA2/~{{RESET}}, 2 PD0, 3 PD1, 4 PA1/XTAL2, 5 PA0/XTAL1, 6 PD2, 7 PD3, 8 PD4, 9 PD5, 10 GND, 11 PD6, 12 PB0, 13 PB1, 14 PB2, 15 PB3, 16 PB4, 17 PB5, 18 PB6, 19 PB7, 20 VCC

## ATtiny2313A-S
designator *  value ATtiny2313A-S  Reference: U
20MHz, 2kB Flash, 128B SRAM, 128B EEPROM, SOIC-20; ki_keywords: AVR 8bit Microcontroller tinyAVR; ki_fp_filters: SOIC*7.5x12.8mm*P1.27mm*; Footprint: Package_SO:SOIC-20W_7.5x12.8mm_P1.27mm; Datasheet: http://ww1.microchip.com/downloads/en/DeviceDoc/doc8246.pdf; Description_: 20MHz, 2kB Flash, 128B SRAM, 128B EEPROM, SOIC-20
pins: 1 PA2/~{{RESET}}, 2 PD0, 3 PD1, 4 PA1/XTAL2, 5 PA0/XTAL1, 6 PD2, 7 PD3, 8 PD4, 9 PD5, 10 GND, 11 PD6, 12 PB0, 13 PB1, 14 PB2, 15 PB3, 16 PB4, 17 PB5, 18 PB6, 19 PB7, 20 VCC

## ATtiny2313V-10M
designator *  value ATtiny2313V-10M  Reference: U
10MHz, 2kB Flash, 128B SRAM, 128B EEPROM, debugWIRE, QFN-20; ki_keywords: AVR 8bit Microcontroller tinyAVR; ki_fp_filters: MLF*1EP*4x4mm*P0.5mm*; Footprint: Package_DFN_QFN:MLF-20-1EP_4x4mm_P0.5mm_EP2.6x2.6mm; Datasheet: http://ww1.microchip.com/downloads/en/DeviceDoc/Atmel-2543-AVR-ATtiny2313_Datasheet.pdf; Description_: 10MHz, 2kB Flash, 128B SRAM, 128B EEPROM, debugWIRE, QFN-20
pins: 1 PD1, 2 PA1/XTAL2, 3 PA0/XTAL1, 4 PD2, 5 PD3, 6 PD4, 7 PD5, 8 GND, 9 PD6, 10 PB0, 11 PB1, 12 PB2, 13 PB3, 14 PB4, 15 PB5, 16 PB6, 17 PB7, 18 VCC, 19 PA2/~{{RESET}}, 20 PD0, 21 GND

## ATtiny2313V-10P
designator *  value ATtiny2313V-10P  Reference: U
10MHz, 2kB Flash, 128B SRAM, 128B EEPROM, debugWIRE, DIP-20; ki_keywords: AVR 8bit Microcontroller tinyAVR; ki_fp_filters: DIP*W7.62mm*; Footprint: Package_DIP:DIP-20_W7.62mm; Datasheet: http://ww1.microchip.com/downloads/en/DeviceDoc/Atmel-2543-AVR-ATtiny2313_Datasheet.pdf; Description_: 10MHz, 2kB Flash, 128B SRAM, 128B EEPROM, debugWIRE, DIP-20
pins: 1 PA2/~{{RESET}}, 2 PD0, 3 PD1, 4 PA1/XTAL2, 5 PA0/XTAL1, 6 PD2, 7 PD3, 8 PD4, 9 PD5, 10 GND, 11 PD6, 12 PB0, 13 PB1, 14 PB2, 15 PB3, 16 PB4, 17 PB5, 18 PB6, 19 PB7, 20 VCC

## ATtiny2313V-10S
designator *  value ATtiny2313V-10S  Reference: U
10MHz, 2kB Flash, 128B SRAM, 128B EEPROM, debugWIRE, SOIC-20; ki_keywords: AVR 8bit Microcontroller tinyAVR; ki_fp_filters: SOIC*7.5x12.8mm*P1.27mm*; Footprint: Package_SO:SOIC-20W_7.5x12.8mm_P1.27mm; Datasheet: http://ww1.microchip.com/downloads/en/DeviceDoc/Atmel-2543-AVR-ATtiny2313_Datasheet.pdf; Description_: 10MHz, 2kB Flash, 128B SRAM, 128B EEPROM, debugWIRE, SOIC-20
pins: 1 PA2/~{{RESET}}, 2 PD0, 3 PD1, 4 PA1/XTAL2, 5 PA0/XTAL1, 6 PD2, 7 PD3, 8 PD4, 9 PD5, 10 GND, 11 PD6, 12 PB0, 13 PB1, 14 PB2, 15 PB3, 16 PB4, 17 PB5, 18 PB6, 19 PB7, 20 VCC

## ATtiny3216-M
designator *  value ATtiny3216-M  Reference: U
20MHz, 32kB Flash, 2kB SRAM, 256B EEPROM, VQFN-20; ki_keywords: AVR 8bit Microcontroller tinyAVR; ki_fp_filters: VQFN*1EP*3x3mm*P0.4mm*; Footprint: Package_DFN_QFN:VQFN-20-1EP_3x3mm_P0.4mm_EP1.7x1.7mm; Datasheet: http://ww1.microchip.com/downloads/en/DeviceDoc/ATtiny3216_ATtiny1616-data-sheet-40001997B.pdf; Description_: 20MHz, 32kB Flash, 2kB SRAM, 256B EEPROM, VQFN-20
pins: 1 PA2, 2 PA3, 3 GND, 4 VCC, 5 PA4, 6 PA5, 7 PA6, 8 PA7, 9 PB5, 10 PB4, 11 PB3, 12 PB2, 13 PB1, 14 PB0, 15 PC0, 16 PC1, 17 PC2, 18 PC3, 19 ~{{RESET}/PA0}, 20 PA1, 21 GND

## ATtiny3216-S
designator *  value ATtiny3216-S  Reference: U
20MHz, 32kB Flash, 2kB SRAM, 256B EEPROM, SOIC-20; ki_keywords: AVR 8bit Microcontroller tinyAVR; ki_fp_filters: SOIC*7.5x12.8mm*P1.27mm*; Footprint: Package_SO:SOIC-20W_7.5x12.8mm_P1.27mm; Datasheet: http://ww1.microchip.com/downloads/en/DeviceDoc/ATtiny3216_ATtiny1616-data-sheet-40001997B.pdf; Description_: 20MHz, 32kB Flash, 2kB SRAM, 256B EEPROM, SOIC-20
pins: 1 VCC, 2 PA4, 3 PA5, 4 PA6, 5 PA7, 6 PB5, 7 PB4, 8 PB3, 9 PB2, 10 PB1, 11 PB0, 12 PC0, 13 PC1, 14 PC2, 15 PC3, 16 ~{{RESET}/PA0}, 17 PA1, 18 PA2, 19 PA3, 20 GND

## ATtiny3217-M
designator *  value ATtiny3217-M  Reference: U
20MHz, 32kB Flash, 2kB SRAM, 256B EEPROM, VQFN-24; ki_keywords: AVR 8bit Microcontroller tinyAVR; ki_fp_filters: QFN*1EP*4x4mm*P0.5mm*; Footprint: Package_DFN_QFN:QFN-24-1EP_4x4mm_P0.5mm_EP2.6x2.6mm; Datasheet: http://ww1.microchip.com/downloads/en/DeviceDoc/ATtiny3217_1617-Data-Sheet-40001999B.pdf; Description_: 20MHz, 32kB Flash, 2kB SRAM, 256B EEPROM, VQFN-24
pins: 1 PA2, 2 PA3, 3 GND, 4 VCC, 5 PA4, 6 PA5, 7 PA6, 8 PA7, 9 PB7, 10 PB6, 11 PB5, 12 PB4, 13 PB3, 14 PB2, 15 PB1, 16 PB0, 17 PC0, 18 PC1, 19 PC2, 20 PC3, 21 PC4, 22 PC5, 23 ~{{RESET}/PA0}, 24 PA1, 25 GND

## ATtiny3224-SS
designator *  value ATtiny3224-SS  Reference: U
20MHz, 32kB Flash, 3kB SRAM, 256B EEPROM, SOIC-14; ki_keywords: AVR 8bit Microcontroller tinyAVR; ki_fp_filters: SOIC*3.9x8.7mm*P1.27mm*; Footprint: Package_SO:SOIC-14_3.9x8.7mm_P1.27mm; Datasheet: https://ww1.microchip.com/downloads/en/DeviceDoc/ATtiny3224-3226-3227-Data-Sheet-DS40002345A.pdf; Description_: 20MHz, 32kB Flash, 3kB SRAM, 256B EEPROM, SOIC-14
pins: 1 VCC, 2 PA4, 3 PA5, 4 PA6, 5 PA7, 6 PB3, 7 PB2, 8 PB1, 9 PB0, 10 ~{{RESET}/PA0}, 11 PA1, 12 PA2, 13 PA3, 14 GND

## ATtiny3224-X
designator *  value ATtiny3224-X  Reference: U
20MHz, 32kB Flash, 3kB SRAM, 256B EEPROM, TSSOP-14; ki_keywords: AVR 8bit Microcontroller tinyAVR; ki_fp_filters: TSSOP*4.4x5mm*P0.65mm*; Footprint: Package_SO:TSSOP-14_4.4x5mm_P0.65mm; Datasheet: https://ww1.microchip.com/downloads/en/DeviceDoc/ATtiny3224-3226-3227-Data-Sheet-DS40002345A.pdf; Description_: 20MHz, 32kB Flash, 3kB SRAM, 256B EEPROM, TSSOP-14
pins: 1 VCC, 2 PA4, 3 PA5, 4 PA6, 5 PA7, 6 PB3, 7 PB2, 8 PB1, 9 PB0, 10 ~{{RESET}/PA0}, 11 PA1, 12 PA2, 13 PA3, 14 GND

## ATtiny3226-M
designator *  value ATtiny3226-M  Reference: U
20MHz, 32kB Flash, 3kB SRAM, 256B EEPROM, VQFN-20; ki_keywords: AVR 8bit Microcontroller tinyAVR; ki_fp_filters: VQFN*1EP*3x3mm*P0.4mm*; Footprint: Package_DFN_QFN:VQFN-20-1EP_3x3mm_P0.4mm_EP1.7x1.7mm; Datasheet: https://ww1.microchip.com/downloads/en/DeviceDoc/ATtiny3224-3226-3227-Data-Sheet-DS40002345A.pdf; Description_: 20MHz, 32kB Flash, 3kB SRAM, 256B EEPROM, VQFN-20
pins: 1 PA2, 2 PA3, 3 GND, 4 VCC, 5 PA4, 6 PA5, 7 PA6, 8 PA7, 9 PB5, 10 PB4, 11 PB3, 12 PB2, 13 PB1, 14 PB0, 15 PC0, 16 PC1, 17 PC2, 18 PC3, 19 ~{{RESET}/PA0}, 20 PA1, 21 GND

## ATtiny3226-S
designator *  value ATtiny3226-S  Reference: U
20MHz, 32kB Flash, 3kB SRAM, 256B EEPROM, SOIC-20; ki_keywords: AVR 8bit Microcontroller tinyAVR; ki_fp_filters: SOIC*7.5x12.8mm*P1.27mm*; Footprint: Package_SO:SOIC-20W_7.5x12.8mm_P1.27mm; Datasheet: https://ww1.microchip.com/downloads/en/DeviceDoc/ATtiny3224-3226-3227-Data-Sheet-DS40002345A.pdf; Description_: 20MHz, 32kB Flash, 3kB SRAM, 256B EEPROM, SOIC-20
pins: 1 VCC, 2 PA4, 3 PA5, 4 PA6, 5 PA7, 6 PB5, 7 PB4, 8 PB3, 9 PB2, 10 PB1, 11 PB0, 12 PC0, 13 PC1, 14 PC2, 15 PC3, 16 ~{{RESET}/PA0}, 17 PA1, 18 PA2, 19 PA3, 20 GND

## ATtiny3226-X
designator *  value ATtiny3226-X  Reference: U
20MHz, 32kB Flash, 3kB SRAM, 256B EEPROM, SSOP-20; ki_keywords: AVR 8bit Microcontroller tinyAVR; ki_fp_filters: SSOP*5.3x7.2mm*P0.65mm*; Footprint: Package_SO:SSOP-20_5.3x7.2mm_P0.65mm; Datasheet: https://ww1.microchip.com/downloads/en/DeviceDoc/ATtiny3224-3226-3227-Data-Sheet-DS40002345A.pdf; Description_: 20MHz, 32kB Flash, 3kB SRAM, 256B EEPROM, SSOP-20
pins: 1 VCC, 2 PA4, 3 PA5, 4 PA6, 5 PA7, 6 PB5, 7 PB4, 8 PB3, 9 PB2, 10 PB1, 11 PB0, 12 PC0, 13 PC1, 14 PC2, 15 PC3, 16 ~{{RESET}/PA0}, 17 PA1, 18 PA2, 19 PA3, 20 GND

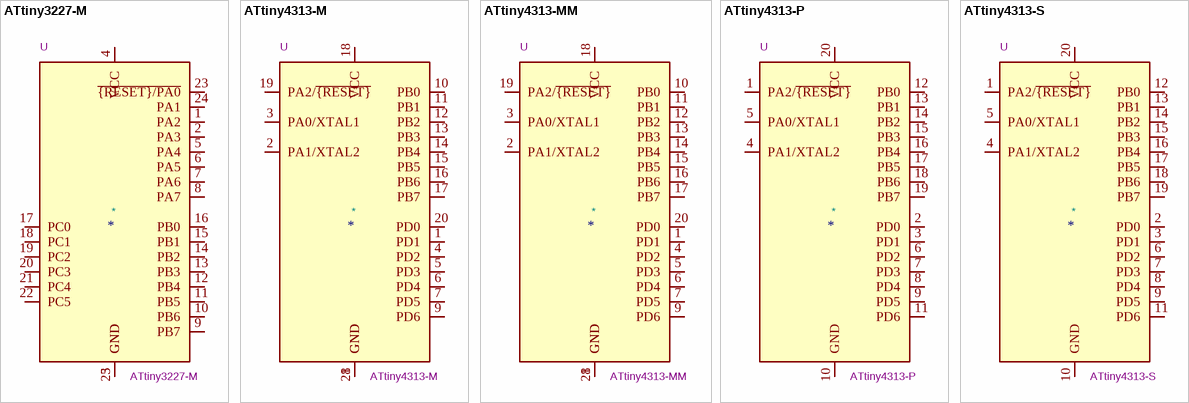
[diagram p9: symbols ATtiny3227-M to ATtiny4313-S]

## ATtiny3227-M
designator *  value ATtiny3227-M  Reference: U
20MHz, 32kB Flash, 3kB SRAM, 256B EEPROM, VQFN-24; ki_keywords: AVR 8bit Microcontroller tinyAVR; ki_fp_filters: QFN*1EP*4x4mm*P0.5mm*; Footprint: Package_DFN_QFN:QFN-24-1EP_4x4mm_P0.5mm_EP2.6x2.6mm; Datasheet: https://ww1.microchip.com/downloads/en/DeviceDoc/ATtiny3224-3226-3227-Data-Sheet-DS40002345A.pdf; Description_: 20MHz, 32kB Flash, 3kB SRAM, 256B EEPROM, VQFN-24
pins: 1 PA2, 2 PA3, 3 GND, 4 VCC, 5 PA4, 6 PA5, 7 PA6, 8 PA7, 9 PB7, 10 PB6, 11 PB5, 12 PB4, 13 PB3, 14 PB2, 15 PB1, 16 PB0, 17 PC0, 18 PC1, 19 PC2, 20 PC3, 21 PC4, 22 PC5, 23 ~{{RESET}/PA0}, 24 PA1, 25 GND

## ATtiny4313-M
designator *  value ATtiny4313-M  Reference: U
20MHz, 4kB Flash, 256B SRAM, 256B EEPROM, QFN-20; ki_keywords: AVR 8bit Microcontroller tinyAVR; ki_fp_filters: MLF*1EP*4x4mm*P0.5mm*; Footprint: Package_DFN_QFN:MLF-20-1EP_4x4mm_P0.5mm_EP2.6x2.6mm; Datasheet: http://ww1.microchip.com/downloads/en/DeviceDoc/doc8246.pdf; Description_: 20MHz, 4kB Flash, 256B SRAM, 256B EEPROM, QFN-20
pins: 1 PD1, 2 PA1/XTAL2, 3 PA0/XTAL1, 4 PD2, 5 PD3, 6 PD4, 7 PD5, 8 GND, 9 PD6, 10 PB0, 11 PB1, 12 PB2, 13 PB3, 14 PB4, 15 PB5, 16 PB6, 17 PB7, 18 VCC, 19 PA2/~{{RESET}}, 20 PD0, 21 GND

## ATtiny4313-MM
designator *  value ATtiny4313-MM  Reference: U
20MHz, 4kB Flash, 256B SRAM, 256B EEPROM, QFN-20; ki_keywords: AVR 8bit Microcontroller tinyAVR; ki_fp_filters: VQFN*1EP*3x3mm*P0.45mm*; Footprint: Package_DFN_QFN:VQFN-20-1EP_3x3mm_P0.45mm_EP1.55x1.55mm; Datasheet: http://ww1.microchip.com/downloads/en/DeviceDoc/doc8246.pdf; Description_: 20MHz, 4kB Flash, 256B SRAM, 256B EEPROM, QFN-20
pins: 1 PD1, 2 PA1/XTAL2, 3 PA0/XTAL1, 4 PD2, 5 PD3, 6 PD4, 7 PD5, 8 GND, 9 PD6, 10 PB0, 11 PB1, 12 PB2, 13 PB3, 14 PB4, 15 PB5, 16 PB6, 17 PB7, 18 VCC, 19 PA2/~{{RESET}}, 20 PD0, 21 GND

## ATtiny4313-P
designator *  value ATtiny4313-P  Reference: U
20MHz, 4kB Flash, 256B SRAM, 256B EEPROM, DIP-20; ki_keywords: AVR 8bit Microcontroller tinyAVR; ki_fp_filters: DIP*W7.62mm*; Footprint: Package_DIP:DIP-20_W7.62mm; Datasheet: http://ww1.microchip.com/downloads/en/DeviceDoc/doc8246.pdf; Description_: 20MHz, 4kB Flash, 256B SRAM, 256B EEPROM, DIP-20
pins: 1 PA2/~{{RESET}}, 2 PD0, 3 PD1, 4 PA1/XTAL2, 5 PA0/XTAL1, 6 PD2, 7 PD3, 8 PD4, 9 PD5, 10 GND, 11 PD6, 12 PB0, 13 PB1, 14 PB2, 15 PB3, 16 PB4, 17 PB5, 18 PB6, 19 PB7, 20 VCC

## ATtiny4313-S
designator *  value ATtiny4313-S  Reference: U
20MHz, 4kB Flash, 256B SRAM, 256B EEPROM, SOIC-20; ki_keywords: AVR 8bit Microcontroller tinyAVR; ki_fp_filters: SOIC*7.5x12.8mm*P1.27mm*; Footprint: Package_SO:SOIC-20W_7.5x12.8mm_P1.27mm; Datasheet: http://ww1.microchip.com/downloads/en/DeviceDoc/doc8246.pdf; Description_: 20MHz, 4kB Flash, 256B SRAM, 256B EEPROM, SOIC-20
pins: 1 PA2/~{{RESET}}, 2 PD0, 3 PD1, 4 PA1/XTAL2, 5 PA0/XTAL1, 6 PD2, 7 PD3, 8 PD4, 9 PD5, 10 GND, 11 PD6, 12 PB0, 13 PB1, 14 PB2, 15 PB3, 16 PB4, 17 PB5, 18 PB6, 19 PB7, 20 VCC